# EAGLE library part CONNECTOR-RJ45 (library SPCoast)
Tyco CORCOM Modular RJ Jacks No Shield
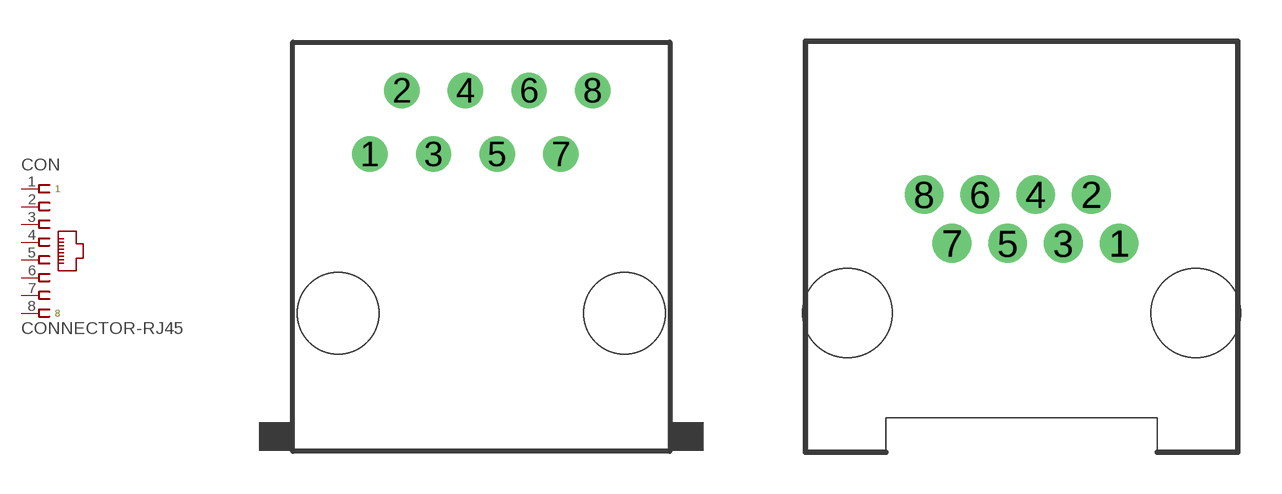
[diagram p3: symbol with the pads of RJ45-NO-SHIELD; footprints RJ45-NO-SHIELD, RJ45-INVERTED]

Designator prefix CON

## CONNECTOR-RJ45-FRONT (AMP: 520151-4; OPL: none)  [RJ45-NO-SHIELD]
1  1  pas
2  2  pas
3  3  pas
4  4  pas
5  5  pas
6  6  pas
7  7  pas
8  8  pas

## CONNECTOR-RJ45-43860-1-MOLEX  [RJ45-INVERTED]
Pads as for RJ45-NO-SHIELD

## Footprint RJ45-NO-SHIELD (pad centres in mm)
RJ45 Low Profile panel mount, no shield For all RJ45 N and Z Series Models Source: www.tycoelectronics.com .. ENG_DS_1654001_1099_RJ_L_0507.pdf
drill 0.9 pad 1.4: 1 -4.445,6.35; 2 -3.175,8.89; 3 -1.905,6.35; 4 -0.635,8.89; 5 0.635,6.35; 6 1.905,8.89; 7 3.175,6.35; 8 4.445,8.89
hole 3.251 at -5.715,0
hole 3.251 at 5.715,0

## Footprint RJ45-INVERTED (pad centres in mm)
drill 0.9: 1 -2.794,2.54; 2 -3.81,4.318; 3 -4.826,2.54; 4 -5.842,4.318; 5 -6.858,2.54; 6 -7.874,4.318; 7 -8.89,2.54; 8 -9.906,4.318
hole 3.251 at -12.7,0
hole 3.251 at 0,0